# EAGLE library part HUB12 (library CONN-LEDMatrix)
PIN HEADER
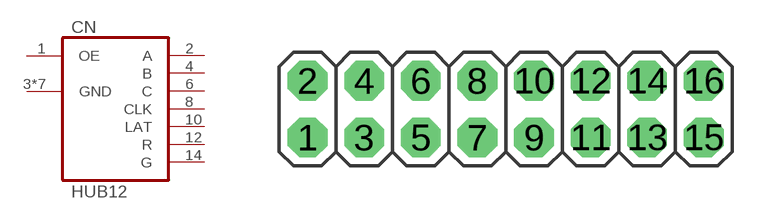
[diagram p0: symbol with the pads of 2X08; footprint 2X08]

Designator prefix CN

## HUB12  [2X08]
1  OE
2  A
3  GND
4  B
5  GND
6  C
7  GND
8  CLK
9  GND
10  LAT
11  GND
12  R
13  GND
14  G
15  GND

## Footprint 2X08 (pad centres in mm)
PIN HEADER
drill 1.016 pad 1.778 octagon: 1 -8.89,-1.27; 2 -8.89,1.27; 3 -6.35,-1.27; 4 -6.35,1.27; 5 -3.81,-1.27; 6 -3.81,1.27; 7 -1.27,-1.27; 8 -1.27,1.27; 9 1.27,-1.27; 10 1.27,1.27; 11 3.81,-1.27; 12 3.81,1.27; 13 6.35,-1.27; 14 6.35,1.27; 15 8.89,-1.27; 16 8.89,1.27